# Altium footprint library QFN_Sq_50P_Side_N.PcbLib: 116 footprints (part 2 of 8)
Each footprint in its own frame and in the unit in brackets; x right, y up, seen from the top. Pads: shape width x height; smd on the part's side, far side on the other; paste and mask are expansions set on the pad; w line width, h text height; cw(c..) or ccw(c..) is an arc to the next point about the centre after c.
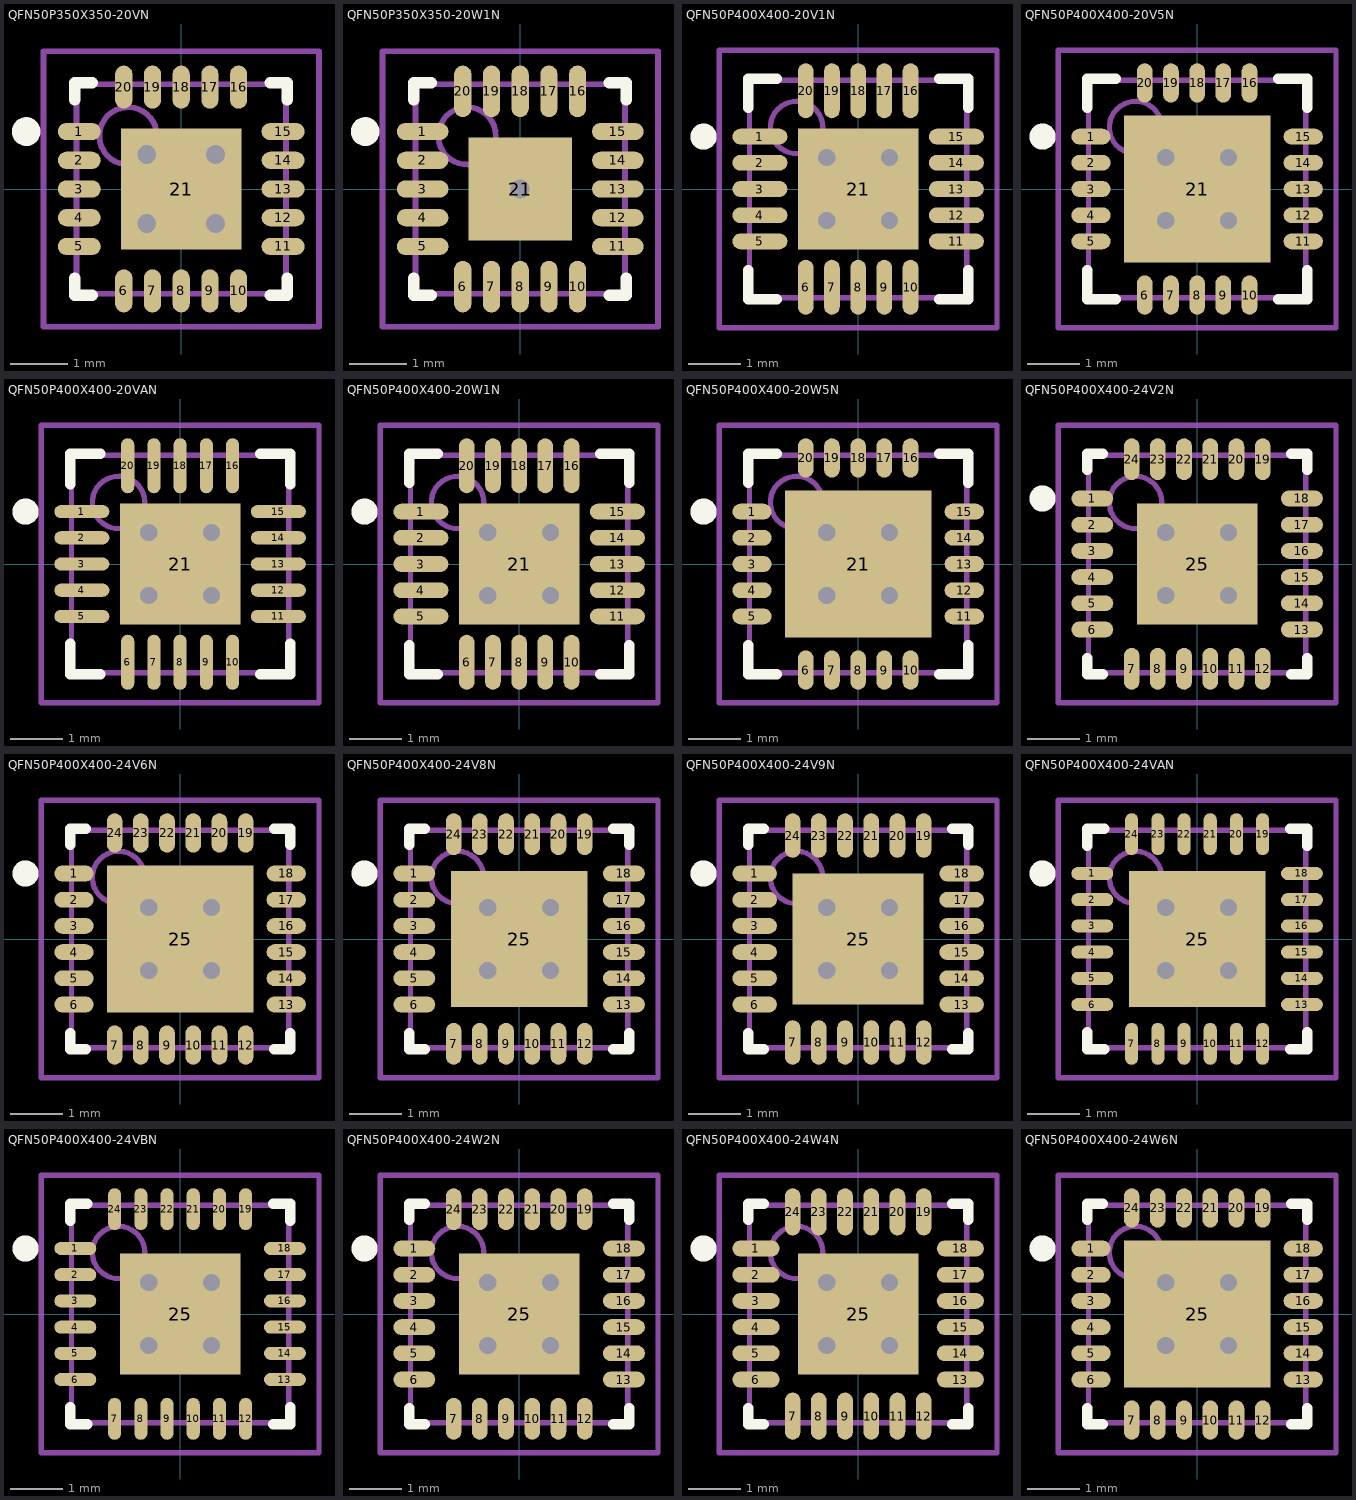
[diagram p1: the footprints below, top view; thin cyan lines are the x and y axes]

## QFN50P350X350-20VN [mm] "QFN, 20-Leads, Body 3.5x3.5mm, Pitch 0.5mm, IPC Medium Density"
height 1
pads (21):
  oval 0.75x0.3 smd: 1(-1.775,1) 2(-1.775,0.5) 3(-1.775,0) 4(-1.775,-0.5) 5(-1.775,-1) 11(1.775,-1) 12(1.775,-0.5) 13(1.775,0) 14(1.775,0.5) 15(1.775,1)
  oval 0.3x0.75 smd: 6(-1,-1.775) 7(-0.5,-1.775) 8(0,-1.775) 9(0.5,-1.775) 10(1,-1.775) 16(1,1.775) 17(0.5,1.775) 18(0,1.775) 19(-0.5,1.775) 20(-1,1.775)
  rect 2.1x2.1 smd: 21(0,0)
via -0.6,0.6 diameter 0.66 hole 0.33
via 0.6,0.6 diameter 0.66 hole 0.33
via -0.6,-0.6 diameter 0.66 hole 0.33
via 0.6,-0.6 diameter 0.66 hole 0.33
Top Overlay:
  circle w0.25: c-2.7,1 r0.125
  lines w0.2: -1.85,-1.55 -1.85,-1.85 -1.55,-1.85 ; -1.85,1.55 -1.85,1.85 -1.55,1.85 ; 1.55,-1.85 1.85,-1.85 1.85,-1.55 ; 1.55,1.85 1.85,1.85 1.85,1.55
Mechanical 13:
  circle w0.1: c-0.925,0.925 r0.5
  lines w0.1: -1.825,-1.825 -1.825,1.825 1.825,1.825 1.825,-1.825 -1.825,-1.825
Mechanical 15:
  lines w0.1: -0.5,0 0.5,0 ; 0,-0.5 0,0.5 ; -2.4,-2.4 -2.4,2.4 2.4,2.4 2.4,-2.4 -2.4,-2.4
3D body: height 1, standoff 0, extent -1.825,-1.825 1.825,1.825

## QFN50P350X350-20W1N [mm] "QFN, 20-Leads, Body 3.5x3.5mm, Pitch 0.5mm, IPC Medium Density"
height 0.8
pads (21):
  oval 0.9x0.3 smd: 1(-1.7,1) 2(-1.7,0.5) 3(-1.7,0) 4(-1.7,-0.5) 5(-1.7,-1) 11(1.7,-1) 12(1.7,-0.5) 13(1.7,0) 14(1.7,0.5) 15(1.7,1)
  oval 0.3x0.9 smd: 6(-1,-1.7) 7(-0.5,-1.7) 8(0,-1.7) 9(0.5,-1.7) 10(1,-1.7) 16(1,1.7) 17(0.5,1.7) 18(0,1.7) 19(-0.5,1.7) 20(-1,1.7)
  rect 1.8x1.8 smd: 21(0,0)
via 0,0 diameter 0.66 hole 0.33
Top Overlay:
  circle w0.25: c-2.7,1 r0.125
  lines w0.2: -1.85,-1.55 -1.85,-1.85 -1.55,-1.85 ; -1.85,1.55 -1.85,1.85 -1.55,1.85 ; 1.55,-1.85 1.85,-1.85 1.85,-1.55 ; 1.55,1.85 1.85,1.85 1.85,1.55
Mechanical 13:
  circle w0.1: c-0.925,0.925 r0.5
  lines w0.1: -1.825,-1.825 -1.825,1.825 1.825,1.825 1.825,-1.825 -1.825,-1.825
Mechanical 15:
  lines w0.1: -0.5,0 0.5,0 ; 0,-0.5 0,0.5 ; -2.4,-2.4 -2.4,2.4 2.4,2.4 2.4,-2.4 -2.4,-2.4
3D body: height 0.8, standoff 0, extent -1.825,-1.825 1.825,1.825

## QFN50P400X400-20V1N [mm] "QFN, 20-Leads, Body 4x4mm, Pitch 0.5mm, IPC Medium Density"
height 1
pads (21):
  oval 1.05x0.3 smd: 1(-1.875,1) 2(-1.875,0.5) 3(-1.875,0) 4(-1.875,-0.5) 5(-1.875,-1) 11(1.875,-1) 12(1.875,-0.5) 13(1.875,0) 14(1.875,0.5) 15(1.875,1)
  oval 0.3x1.05 smd: 6(-1,-1.875) 7(-0.5,-1.875) 8(0,-1.875) 9(0.5,-1.875) 10(1,-1.875) 16(1,1.875) 17(0.5,1.875) 18(0,1.875) 19(-0.5,1.875) 20(-1,1.875)
  rect 2.3x2.3 smd: 21(0,0)
via -0.6,0.6 diameter 0.66 hole 0.33
via 0.6,0.6 diameter 0.66 hole 0.33
via -0.6,-0.6 diameter 0.66 hole 0.33
via 0.6,-0.6 diameter 0.66 hole 0.33
Top Overlay:
  circle w0.25: c-2.95,1 r0.125
  lines w0.2: -2.1,-1.55 -2.1,-2.1 -1.55,-2.1 ; -2.1,1.55 -2.1,2.1 -1.55,2.1 ; 1.55,-2.1 2.1,-2.1 2.1,-1.55 ; 1.55,2.1 2.1,2.1 2.1,1.55
Mechanical 13:
  circle w0.1: c-1.175,1.175 r0.5
  lines w0.1: -2.075,-2.075 -2.075,2.075 2.075,2.075 2.075,-2.075 -2.075,-2.075
Mechanical 15:
  lines w0.1: -0.5,0 0.5,0 ; 0,-0.5 0,0.5 ; -2.65,-2.65 -2.65,2.65 2.65,2.65 2.65,-2.65 -2.65,-2.65
3D body: height 1, standoff 0, extent -2.075,-2.075 2.075,2.075

## QFN50P400X400-20V5N [mm] "QFN, 20-Leads, Body 4x4mm, Pitch 0.5mm, IPC Medium Density"
height 1
pads (21):
  oval 0.75x0.3 smd: 1(-2.025,1) 2(-2.025,0.5) 3(-2.025,0) 4(-2.025,-0.5) 5(-2.025,-1) 11(2.025,-1) 12(2.025,-0.5) 13(2.025,0) 14(2.025,0.5) 15(2.025,1)
  oval 0.3x0.75 smd: 6(-1,-2.025) 7(-0.5,-2.025) 8(0,-2.025) 9(0.5,-2.025) 10(1,-2.025) 16(1,2.025) 17(0.5,2.025) 18(0,2.025) 19(-0.5,2.025) 20(-1,2.025)
  rect 2.8x2.8 smd: 21(0,0)
via -0.6,0.6 diameter 0.66 hole 0.33
via 0.6,0.6 diameter 0.66 hole 0.33
via -0.6,-0.6 diameter 0.66 hole 0.33
via 0.6,-0.6 diameter 0.66 hole 0.33
Top Overlay:
  circle w0.25: c-2.95,1 r0.125
  lines w0.2: -2.1,-1.55 -2.1,-2.1 -1.55,-2.1 ; -2.1,1.55 -2.1,2.1 -1.55,2.1 ; 1.55,-2.1 2.1,-2.1 2.1,-1.55 ; 1.55,2.1 2.1,2.1 2.1,1.55
Mechanical 13:
  circle w0.1: c-1.175,1.175 r0.5
  lines w0.1: -2.075,-2.075 -2.075,2.075 2.075,2.075 2.075,-2.075 -2.075,-2.075
Mechanical 15:
  lines w0.1: -0.5,0 0.5,0 ; 0,-0.5 0,0.5 ; -2.65,-2.65 -2.65,2.65 2.65,2.65 2.65,-2.65 -2.65,-2.65
3D body: height 1, standoff 0, extent -2.075,-2.075 2.075,2.075

## QFN50P400X400-20VAN [mm] "QFN, 20-Leads, Body 4x4mm, Pitch 0.5mm, IPC Medium Density"
height 1
pads (21):
  oval 1.05x0.25 smd: 1(-1.875,1) 2(-1.875,0.5) 3(-1.875,0) 4(-1.875,-0.5) 5(-1.875,-1) 11(1.875,-1) 12(1.875,-0.5) 13(1.875,0) 14(1.875,0.5) 15(1.875,1)
  oval 0.25x1.05 smd: 6(-1,-1.875) 7(-0.5,-1.875) 8(0,-1.875) 9(0.5,-1.875) 10(1,-1.875) 16(1,1.875) 17(0.5,1.875) 18(0,1.875) 19(-0.5,1.875) 20(-1,1.875)
  rect 2.3x2.3 smd: 21(0,0)
via -0.6,0.6 diameter 0.66 hole 0.33
via 0.6,0.6 diameter 0.66 hole 0.33
via -0.6,-0.6 diameter 0.66 hole 0.33
via 0.6,-0.6 diameter 0.66 hole 0.33
Top Overlay:
  circle w0.25: c-2.95,1 r0.125
  lines w0.2: -2.1,-1.525 -2.1,-2.1 -1.525,-2.1 ; -2.1,1.525 -2.1,2.1 -1.525,2.1 ; 1.525,-2.1 2.1,-2.1 2.1,-1.525 ; 1.525,2.1 2.1,2.1 2.1,1.525
Mechanical 13:
  circle w0.1: c-1.175,1.175 r0.5
  lines w0.1: -2.075,-2.075 -2.075,2.075 2.075,2.075 2.075,-2.075 -2.075,-2.075
Mechanical 15:
  lines w0.1: -0.5,0 0.5,0 ; 0,-0.5 0,0.5 ; -2.65,-2.65 -2.65,2.65 2.65,2.65 2.65,-2.65 -2.65,-2.65
3D body: height 1, standoff 0, extent -2.075,-2.075 2.075,2.075

## QFN50P400X400-20W1N [mm] "QFN, 20-Leads, Body 4x4mm, Pitch 0.5mm, IPC Medium Density"
height 0.8
pads (21):
  oval 1.05x0.3 smd: 1(-1.875,1) 2(-1.875,0.5) 3(-1.875,0) 4(-1.875,-0.5) 5(-1.875,-1) 11(1.875,-1) 12(1.875,-0.5) 13(1.875,0) 14(1.875,0.5) 15(1.875,1)
  oval 0.3x1.05 smd: 6(-1,-1.875) 7(-0.5,-1.875) 8(0,-1.875) 9(0.5,-1.875) 10(1,-1.875) 16(1,1.875) 17(0.5,1.875) 18(0,1.875) 19(-0.5,1.875) 20(-1,1.875)
  rect 2.3x2.3 smd: 21(0,0)
via -0.6,0.6 diameter 0.66 hole 0.33
via 0.6,0.6 diameter 0.66 hole 0.33
via -0.6,-0.6 diameter 0.66 hole 0.33
via 0.6,-0.6 diameter 0.66 hole 0.33
Top Overlay:
  circle w0.25: c-2.95,1 r0.125
  lines w0.2: -2.1,-1.55 -2.1,-2.1 -1.55,-2.1 ; -2.1,1.55 -2.1,2.1 -1.55,2.1 ; 1.55,-2.1 2.1,-2.1 2.1,-1.55 ; 1.55,2.1 2.1,2.1 2.1,1.55
Mechanical 13:
  circle w0.1: c-1.175,1.175 r0.5
  lines w0.1: -2.075,-2.075 -2.075,2.075 2.075,2.075 2.075,-2.075 -2.075,-2.075
Mechanical 15:
  lines w0.1: -0.5,0 0.5,0 ; 0,-0.5 0,0.5 ; -2.65,-2.65 -2.65,2.65 2.65,2.65 2.65,-2.65 -2.65,-2.65
3D body: height 0.8, standoff 0, extent -2.075,-2.075 2.075,2.075

## QFN50P400X400-20W5N [mm] "QFN, 20-Leads, Body 4x4mm, Pitch 0.5mm, IPC Medium Density"
height 0.8
pads (21):
  oval 0.75x0.3 smd: 1(-2.025,1) 2(-2.025,0.5) 3(-2.025,0) 4(-2.025,-0.5) 5(-2.025,-1) 11(2.025,-1) 12(2.025,-0.5) 13(2.025,0) 14(2.025,0.5) 15(2.025,1)
  oval 0.3x0.75 smd: 6(-1,-2.025) 7(-0.5,-2.025) 8(0,-2.025) 9(0.5,-2.025) 10(1,-2.025) 16(1,2.025) 17(0.5,2.025) 18(0,2.025) 19(-0.5,2.025) 20(-1,2.025)
  rect 2.8x2.8 smd: 21(0,0)
via -0.6,0.6 diameter 0.66 hole 0.33
via 0.6,0.6 diameter 0.66 hole 0.33
via -0.6,-0.6 diameter 0.66 hole 0.33
via 0.6,-0.6 diameter 0.66 hole 0.33
Top Overlay:
  circle w0.25: c-2.95,1 r0.125
  lines w0.2: -2.1,-1.55 -2.1,-2.1 -1.55,-2.1 ; -2.1,1.55 -2.1,2.1 -1.55,2.1 ; 1.55,-2.1 2.1,-2.1 2.1,-1.55 ; 1.55,2.1 2.1,2.1 2.1,1.55
Mechanical 13:
  circle w0.1: c-1.175,1.175 r0.5
  lines w0.1: -2.075,-2.075 -2.075,2.075 2.075,2.075 2.075,-2.075 -2.075,-2.075
Mechanical 15:
  lines w0.1: -0.5,0 0.5,0 ; 0,-0.5 0,0.5 ; -2.65,-2.65 -2.65,2.65 2.65,2.65 2.65,-2.65 -2.65,-2.65
3D body: height 0.8, standoff 0, extent -2.075,-2.075 2.075,2.075

## QFN50P400X400-24V2N [mm] "QFN, 24-Leads, Body 4x4mm, Pitch 0.5mm, IPC Medium Density"
height 1
pads (25):
  oval 0.8x0.3 smd: 1(-2,1.25) 2(-2,0.75) 3(-2,0.25) 4(-2,-0.25) 5(-2,-0.75) 6(-2,-1.25) 13(2,-1.25) 14(2,-0.75) 15(2,-0.25) 16(2,0.25) 17(2,0.75) 18(2,1.25)
  oval 0.3x0.8 smd: 7(-1.25,-2) 8(-0.75,-2) 9(-0.25,-2) 10(0.25,-2) 11(0.75,-2) 12(1.25,-2) 19(1.25,2) 20(0.75,2) 21(0.25,2) 22(-0.25,2) 23(-0.75,2) 24(-1.25,2)
  rect 2.3x2.3 smd: 25(0,0)
via -0.6,0.6 diameter 0.66 hole 0.33
via 0.6,0.6 diameter 0.66 hole 0.33
via -0.6,-0.6 diameter 0.66 hole 0.33
via 0.6,-0.6 diameter 0.66 hole 0.33
Top Overlay:
  circle w0.25: c-2.95,1.25 r0.125
  lines w0.2: -2.1,-1.8 -2.1,-2.1 -1.8,-2.1 ; -2.1,1.8 -2.1,2.1 -1.8,2.1 ; 1.8,-2.1 2.1,-2.1 2.1,-1.8 ; 1.8,2.1 2.1,2.1 2.1,1.8
Mechanical 13:
  circle w0.1: c-1.175,1.175 r0.5
  lines w0.1: -2.075,-2.075 -2.075,2.075 2.075,2.075 2.075,-2.075 -2.075,-2.075
Mechanical 15:
  lines w0.1: -0.5,0 0.5,0 ; 0,-0.5 0,0.5 ; -2.65,-2.65 -2.65,2.65 2.65,2.65 2.65,-2.65 -2.65,-2.65
3D body: height 1, standoff 0, extent -2.075,-2.075 2.075,2.075

## QFN50P400X400-24V6N [mm] "QFN, 24-Leads, Body 4x4mm, Pitch 0.5mm, IPC Medium Density"
height 1
pads (25):
  oval 0.75x0.3 smd: 1(-2.025,1.25) 2(-2.025,0.75) 3(-2.025,0.25) 4(-2.025,-0.25) 5(-2.025,-0.75) 6(-2.025,-1.25) 13(2.025,-1.25) 14(2.025,-0.75) 15(2.025,-0.25) 16(2.025,0.25) 17(2.025,0.75) 18(2.025,1.25)
  oval 0.3x0.75 smd: 7(-1.25,-2.025) 8(-0.75,-2.025) 9(-0.25,-2.025) 10(0.25,-2.025) 11(0.75,-2.025) 12(1.25,-2.025) 19(1.25,2.025) 20(0.75,2.025) 21(0.25,2.025) 22(-0.25,2.025) 23(-0.75,2.025) 24(-1.25,2.025)
  rect 2.8x2.8 smd: 25(0,0)
via -0.6,0.6 diameter 0.66 hole 0.33
via 0.6,0.6 diameter 0.66 hole 0.33
via -0.6,-0.6 diameter 0.66 hole 0.33
via 0.6,-0.6 diameter 0.66 hole 0.33
Top Overlay:
  circle w0.25: c-2.95,1.25 r0.125
  lines w0.2: -2.1,-1.8 -2.1,-2.1 -1.8,-2.1 ; -2.1,1.8 -2.1,2.1 -1.8,2.1 ; 1.8,-2.1 2.1,-2.1 2.1,-1.8 ; 1.8,2.1 2.1,2.1 2.1,1.8
Mechanical 13:
  circle w0.1: c-1.175,1.175 r0.5
  lines w0.1: -2.075,-2.075 -2.075,2.075 2.075,2.075 2.075,-2.075 -2.075,-2.075
Mechanical 15:
  lines w0.1: -0.5,0 0.5,0 ; 0,-0.5 0,0.5 ; -2.65,-2.65 -2.65,2.65 2.65,2.65 2.65,-2.65 -2.65,-2.65
3D body: height 1, standoff 0, extent -2.075,-2.075 2.075,2.075

## QFN50P400X400-24V8N [mm] "QFN, 24-Leads, Body 4x4mm, Pitch 0.5mm, IPC Medium Density"
height 1
pads (25):
  oval 0.8x0.3 smd: 1(-2,1.25) 2(-2,0.75) 3(-2,0.25) 4(-2,-0.25) 5(-2,-0.75) 6(-2,-1.25) 13(2,-1.25) 14(2,-0.75) 15(2,-0.25) 16(2,0.25) 17(2,0.75) 18(2,1.25)
  oval 0.3x0.8 smd: 7(-1.25,-2) 8(-0.75,-2) 9(-0.25,-2) 10(0.25,-2) 11(0.75,-2) 12(1.25,-2) 19(1.25,2) 20(0.75,2) 21(0.25,2) 22(-0.25,2) 23(-0.75,2) 24(-1.25,2)
  rect 2.6x2.6 smd: 25(0,0)
via -0.6,0.6 diameter 0.66 hole 0.33
via 0.6,0.6 diameter 0.66 hole 0.33
via -0.6,-0.6 diameter 0.66 hole 0.33
via 0.6,-0.6 diameter 0.66 hole 0.33
Top Overlay:
  circle w0.25: c-2.95,1.25 r0.125
  lines w0.2: -2.1,-1.8 -2.1,-2.1 -1.8,-2.1 ; -2.1,1.8 -2.1,2.1 -1.8,2.1 ; 1.8,-2.1 2.1,-2.1 2.1,-1.8 ; 1.8,2.1 2.1,2.1 2.1,1.8
Mechanical 13:
  circle w0.1: c-1.175,1.175 r0.5
  lines w0.1: -2.075,-2.075 -2.075,2.075 2.075,2.075 2.075,-2.075 -2.075,-2.075
Mechanical 15:
  lines w0.1: -0.5,0 0.5,0 ; 0,-0.5 0,0.5 ; -2.65,-2.65 -2.65,2.65 2.65,2.65 2.65,-2.65 -2.65,-2.65
3D body: height 1, standoff 0, extent -2.075,-2.075 2.075,2.075

## QFN50P400X400-24V9N [mm] "QFN, 24-Leads, Body 4x4mm, Pitch 0.5mm, IPC Medium Density"
height 1
pads (25):
  oval 0.85x0.3 smd: 1(-1.975,1.25) 2(-1.975,0.75) 3(-1.975,0.25) 4(-1.975,-0.25) 5(-1.975,-0.75) 6(-1.975,-1.25) 13(1.975,-1.25) 14(1.975,-0.75) 15(1.975,-0.25) 16(1.975,0.25) 17(1.975,0.75) 18(1.975,1.25)
  oval 0.3x0.85 smd: 7(-1.25,-1.975) 8(-0.75,-1.975) 9(-0.25,-1.975) 10(0.25,-1.975) 11(0.75,-1.975) 12(1.25,-1.975) 19(1.25,1.975) 20(0.75,1.975) 21(0.25,1.975) 22(-0.25,1.975) 23(-0.75,1.975) 24(-1.25,1.975)
  rect 2.5x2.5 smd: 25(0,0)
via -0.6,0.6 diameter 0.66 hole 0.33
via 0.6,0.6 diameter 0.66 hole 0.33
via -0.6,-0.6 diameter 0.66 hole 0.33
via 0.6,-0.6 diameter 0.66 hole 0.33
Top Overlay:
  circle w0.25: c-2.95,1.25 r0.125
  lines w0.2: -2.1,-1.8 -2.1,-2.1 -1.8,-2.1 ; -2.1,1.8 -2.1,2.1 -1.8,2.1 ; 1.8,-2.1 2.1,-2.1 2.1,-1.8 ; 1.8,2.1 2.1,2.1 2.1,1.8
Mechanical 13:
  circle w0.1: c-1.175,1.175 r0.5
  lines w0.1: -2.075,-2.075 -2.075,2.075 2.075,2.075 2.075,-2.075 -2.075,-2.075
Mechanical 15:
  lines w0.1: -0.5,0 0.5,0 ; 0,-0.5 0,0.5 ; -2.65,-2.65 -2.65,2.65 2.65,2.65 2.65,-2.65 -2.65,-2.65
3D body: height 1, standoff 0, extent -2.075,-2.075 2.075,2.075

## QFN50P400X400-24VAN [mm] "24-Pin Plastic Quad Flat No-Lead 0.5 mm Pitch"
height 1
pads (25):
  oval 0.8x0.25 smd: 1(-2,1.25) 2(-2,0.75) 3(-2,0.25) 4(-2,-0.25) 5(-2,-0.75) 6(-2,-1.25) 13(2,-1.25) 14(2,-0.75) 15(2,-0.25) 16(2,0.25) 17(2,0.75) 18(2,1.25)
  oval 0.25x0.8 smd: 7(-1.25,-2) 8(-0.75,-2) 9(-0.25,-2) 10(0.25,-2) 11(0.75,-2) 12(1.25,-2) 19(1.25,2) 20(0.75,2) 21(0.25,2) 22(-0.25,2) 23(-0.75,2) 24(-1.25,2)
  rect 2.6x2.6 smd: 25(0,0)
via -0.6,0.6 diameter 0.66 hole 0.33
via 0.6,0.6 diameter 0.66 hole 0.33
via -0.6,-0.6 diameter 0.66 hole 0.33
via 0.6,-0.6 diameter 0.66 hole 0.33
Top Overlay:
  circle w0.25: c-2.95,1.25 r0.125
  lines w0.2: -2.1,-1.775 -2.1,-2.1 -1.775,-2.1 ; -2.1,1.775 -2.1,2.1 -1.775,2.1 ; 1.775,-2.1 2.1,-2.1 2.1,-1.775 ; 1.775,2.1 2.1,2.1 2.1,1.775
Mechanical 13:
  circle w0.1: c-1.175,1.175 r0.5
  lines w0.1: -2.075,-2.075 -2.075,2.075 2.075,2.075 2.075,-2.075 -2.075,-2.075
Mechanical 15:
  lines w0.1: -0.5,0 0.5,0 ; 0,-0.5 0,0.5 ; -2.65,-2.65 -2.65,2.65 2.65,2.65 2.65,-2.65 -2.65,-2.65
3D body: height 1, standoff 0, extent -2.075,-2.075 2.075,2.075

## QFN50P400X400-24VBN [mm] "QFN, 24-Leads, Body 4x4mm, Pitch 0.5mm, IPC Medium Density"
height 1
pads (25):
  oval 0.8x0.25 smd: 1(-2,1.25) 2(-2,0.75) 3(-2,0.25) 4(-2,-0.25) 5(-2,-0.75) 6(-2,-1.25) 13(2,-1.25) 14(2,-0.75) 15(2,-0.25) 16(2,0.25) 17(2,0.75) 18(2,1.25)
  oval 0.25x0.8 smd: 7(-1.25,-2) 8(-0.75,-2) 9(-0.25,-2) 10(0.25,-2) 11(0.75,-2) 12(1.25,-2) 19(1.25,2) 20(0.75,2) 21(0.25,2) 22(-0.25,2) 23(-0.75,2) 24(-1.25,2)
  rect 2.3x2.3 smd: 25(0,0)
via -0.6,0.6 diameter 0.66 hole 0.33
via 0.6,0.6 diameter 0.66 hole 0.33
via -0.6,-0.6 diameter 0.66 hole 0.33
via 0.6,-0.6 diameter 0.66 hole 0.33
Top Overlay:
  circle w0.25: c-2.95,1.25 r0.125
  lines w0.2: -2.1,-1.775 -2.1,-2.1 -1.775,-2.1 ; -2.1,1.775 -2.1,2.1 -1.775,2.1 ; 1.775,-2.1 2.1,-2.1 2.1,-1.775 ; 1.775,2.1 2.1,2.1 2.1,1.775
Mechanical 13:
  circle w0.1: c-1.175,1.175 r0.5
  lines w0.1: -2.075,-2.075 -2.075,2.075 2.075,2.075 2.075,-2.075 -2.075,-2.075
Mechanical 15:
  lines w0.1: -0.5,0 0.5,0 ; 0,-0.5 0,0.5 ; -2.65,-2.65 -2.65,2.65 2.65,2.65 2.65,-2.65 -2.65,-2.65
3D body: height 1, standoff 0, extent -2.075,-2.075 2.075,2.075

## QFN50P400X400-24W2N [mm] "QFN, 24-Leads, Body 4x4mm, Pitch 0.5mm, IPC Medium Density"
height 0.8
pads (25):
  oval 0.8x0.3 smd: 1(-2,1.25) 2(-2,0.75) 3(-2,0.25) 4(-2,-0.25) 5(-2,-0.75) 6(-2,-1.25) 13(2,-1.25) 14(2,-0.75) 15(2,-0.25) 16(2,0.25) 17(2,0.75) 18(2,1.25)
  oval 0.3x0.8 smd: 7(-1.25,-2) 8(-0.75,-2) 9(-0.25,-2) 10(0.25,-2) 11(0.75,-2) 12(1.25,-2) 19(1.25,2) 20(0.75,2) 21(0.25,2) 22(-0.25,2) 23(-0.75,2) 24(-1.25,2)
  rect 2.3x2.3 smd: 25(0,0)
via -0.6,0.6 diameter 0.66 hole 0.33
via 0.6,0.6 diameter 0.66 hole 0.33
via -0.6,-0.6 diameter 0.66 hole 0.33
via 0.6,-0.6 diameter 0.66 hole 0.33
Top Overlay:
  circle w0.25: c-2.95,1.25 r0.125
  lines w0.2: -2.1,-1.8 -2.1,-2.1 -1.8,-2.1 ; -2.1,1.8 -2.1,2.1 -1.8,2.1 ; 1.8,-2.1 2.1,-2.1 2.1,-1.8 ; 1.8,2.1 2.1,2.1 2.1,1.8
Mechanical 13:
  circle w0.1: c-1.175,1.175 r0.5
  lines w0.1: -2.075,-2.075 -2.075,2.075 2.075,2.075 2.075,-2.075 -2.075,-2.075
Mechanical 15:
  lines w0.1: -0.5,0 0.5,0 ; 0,-0.5 0,0.5 ; -2.65,-2.65 -2.65,2.65 2.65,2.65 2.65,-2.65 -2.65,-2.65
3D body: height 0.8, standoff 0, extent -2.075,-2.075 2.075,2.075

## QFN50P400X400-24W4N [mm] "QFN, 24-Leads, Body 4x4mm, Pitch 0.5mm, IPC Medium Density"
height 0.8
pads (25):
  oval 0.9x0.3 smd: 1(-1.95,1.25) 2(-1.95,0.75) 3(-1.95,0.25) 4(-1.95,-0.25) 5(-1.95,-0.75) 6(-1.95,-1.25) 13(1.95,-1.25) 14(1.95,-0.75) 15(1.95,-0.25) 16(1.95,0.25) 17(1.95,0.75) 18(1.95,1.25)
  oval 0.3x0.9 smd: 7(-1.25,-1.95) 8(-0.75,-1.95) 9(-0.25,-1.95) 10(0.25,-1.95) 11(0.75,-1.95) 12(1.25,-1.95) 19(1.25,1.95) 20(0.75,1.95) 21(0.25,1.95) 22(-0.25,1.95) 23(-0.75,1.95) 24(-1.25,1.95)
  rect 2.3x2.3 smd: 25(0,0)
via -0.6,0.6 diameter 0.66 hole 0.33
via 0.6,0.6 diameter 0.66 hole 0.33
via -0.6,-0.6 diameter 0.66 hole 0.33
via 0.6,-0.6 diameter 0.66 hole 0.33
Top Overlay:
  circle w0.25: c-2.95,1.25 r0.125
  lines w0.2: -2.1,-1.8 -2.1,-2.1 -1.8,-2.1 ; -2.1,1.8 -2.1,2.1 -1.8,2.1 ; 1.8,-2.1 2.1,-2.1 2.1,-1.8 ; 1.8,2.1 2.1,2.1 2.1,1.8
Mechanical 13:
  circle w0.1: c-1.175,1.175 r0.5
  lines w0.1: -2.075,-2.075 -2.075,2.075 2.075,2.075 2.075,-2.075 -2.075,-2.075
Mechanical 15:
  lines w0.1: -0.5,0 0.5,0 ; 0,-0.5 0,0.5 ; -2.65,-2.65 -2.65,2.65 2.65,2.65 2.65,-2.65 -2.65,-2.65
3D body: height 0.8, standoff 0, extent -2.075,-2.075 2.075,2.075

## QFN50P400X400-24W6N [mm] "QFN, 24-Leads, Body 4x4mm, Pitch 0.5mm, IPC Medium Density"
height 0.8
pads (25):
  oval 0.75x0.3 smd: 1(-2.025,1.25) 2(-2.025,0.75) 3(-2.025,0.25) 4(-2.025,-0.25) 5(-2.025,-0.75) 6(-2.025,-1.25) 13(2.025,-1.25) 14(2.025,-0.75) 15(2.025,-0.25) 16(2.025,0.25) 17(2.025,0.75) 18(2.025,1.25)
  oval 0.3x0.75 smd: 7(-1.25,-2.025) 8(-0.75,-2.025) 9(-0.25,-2.025) 10(0.25,-2.025) 11(0.75,-2.025) 12(1.25,-2.025) 19(1.25,2.025) 20(0.75,2.025) 21(0.25,2.025) 22(-0.25,2.025) 23(-0.75,2.025) 24(-1.25,2.025)
  rect 2.8x2.8 smd: 25(0,0)
via -0.6,0.6 diameter 0.66 hole 0.33
via 0.6,0.6 diameter 0.66 hole 0.33
via -0.6,-0.6 diameter 0.66 hole 0.33
via 0.6,-0.6 diameter 0.66 hole 0.33
Top Overlay:
  circle w0.25: c-2.95,1.25 r0.125
  lines w0.2: -2.1,-1.8 -2.1,-2.1 -1.8,-2.1 ; -2.1,1.8 -2.1,2.1 -1.8,2.1 ; 1.8,-2.1 2.1,-2.1 2.1,-1.8 ; 1.8,2.1 2.1,2.1 2.1,1.8
Mechanical 13:
  circle w0.1: c-1.175,1.175 r0.5
  lines w0.1: -2.075,-2.075 -2.075,2.075 2.075,2.075 2.075,-2.075 -2.075,-2.075
Mechanical 15:
  lines w0.1: -0.5,0 0.5,0 ; 0,-0.5 0,0.5 ; -2.65,-2.65 -2.65,2.65 2.65,2.65 2.65,-2.65 -2.65,-2.65
3D body: height 0.8, standoff 0, extent -2.075,-2.075 2.075,2.075